# Altium footprint library pulseox-clamp-PCB-PCBLib.PcbLib: 2 footprints
Each footprint in its own frame and in the unit in brackets; x right, y up, seen from the top. Pads: shape width x height; smd on the part's side, far side on the other; paste and mask are expansions set on the pad; w line width, h text height; cw(c..) or ccw(c..) is an arc to the next point about the centre after c.
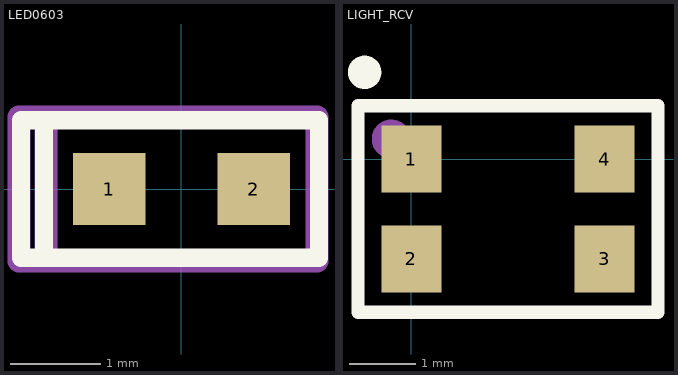
[diagram p0: the footprints below, top view; thin cyan lines are the x and y axes]

## LED0603 [mm]
pads (2):
  rect 0.8x0.8 smd: 1(-0.8,0) 2(0.8,0)
Top Overlay:
  lines w0.2: -1.524,-0.762 -1.524,0.762 ; -1.778,-0.762 -1.778,0.762 1.524,0.762 1.524,-0.762 -1.778,-0.762
Mechanical 29:
  lines w0.254: -1.5,-0.8 -1.5,0.8 ; -1.8,-0.8 1.5,-0.8 1.5,0.8 -1.8,0.8 -1.8,-0.8
  text ".Designator" at -1.1,-0.3 h0.6
3D body: height 0.66, standoff 0.5, extent -0.2,-0.2 0.2,0.2
3D body "LED SMD 0603.step": height 0.65, standoff 0, extent -0.85,-0.4 0.85,0.4

## LIGHT_RCV [mm]
pads (4):
  rect 0.9x1 smd: 1(0,0) 2(0,-1.5) 3(2.9,-1.5) 4(2.9,0)
Top Overlay:
  circle w0.3: c-0.7,1.3 r0.1
  lines w0.2: -0.8,-2.3 -0.8,0.8 3.7,0.8 3.7,-2.3 -0.8,-2.3
Mechanical 29:
  circle w0.3: c-0.3,0.3 r0.141
  lines w0.1: -0.8,-2.3 -0.8,0.8 3.7,0.8 3.7,-2.3 -0.8,-2.3
  text ".Designator" at 0.4,-1.1 h0.8